# Altium footprint library VolcDB_B.PcbLib: 25 footprints (part 1 of 2)
Each footprint in its own frame and in the unit in brackets; x right, y up, seen from the top. Pads: shape width x height; smd on the part's side, far side on the other; paste and mask are expansions set on the pad; w line width, h text height; cw(c..) or ccw(c..) is an arc to the next point about the centre after c.
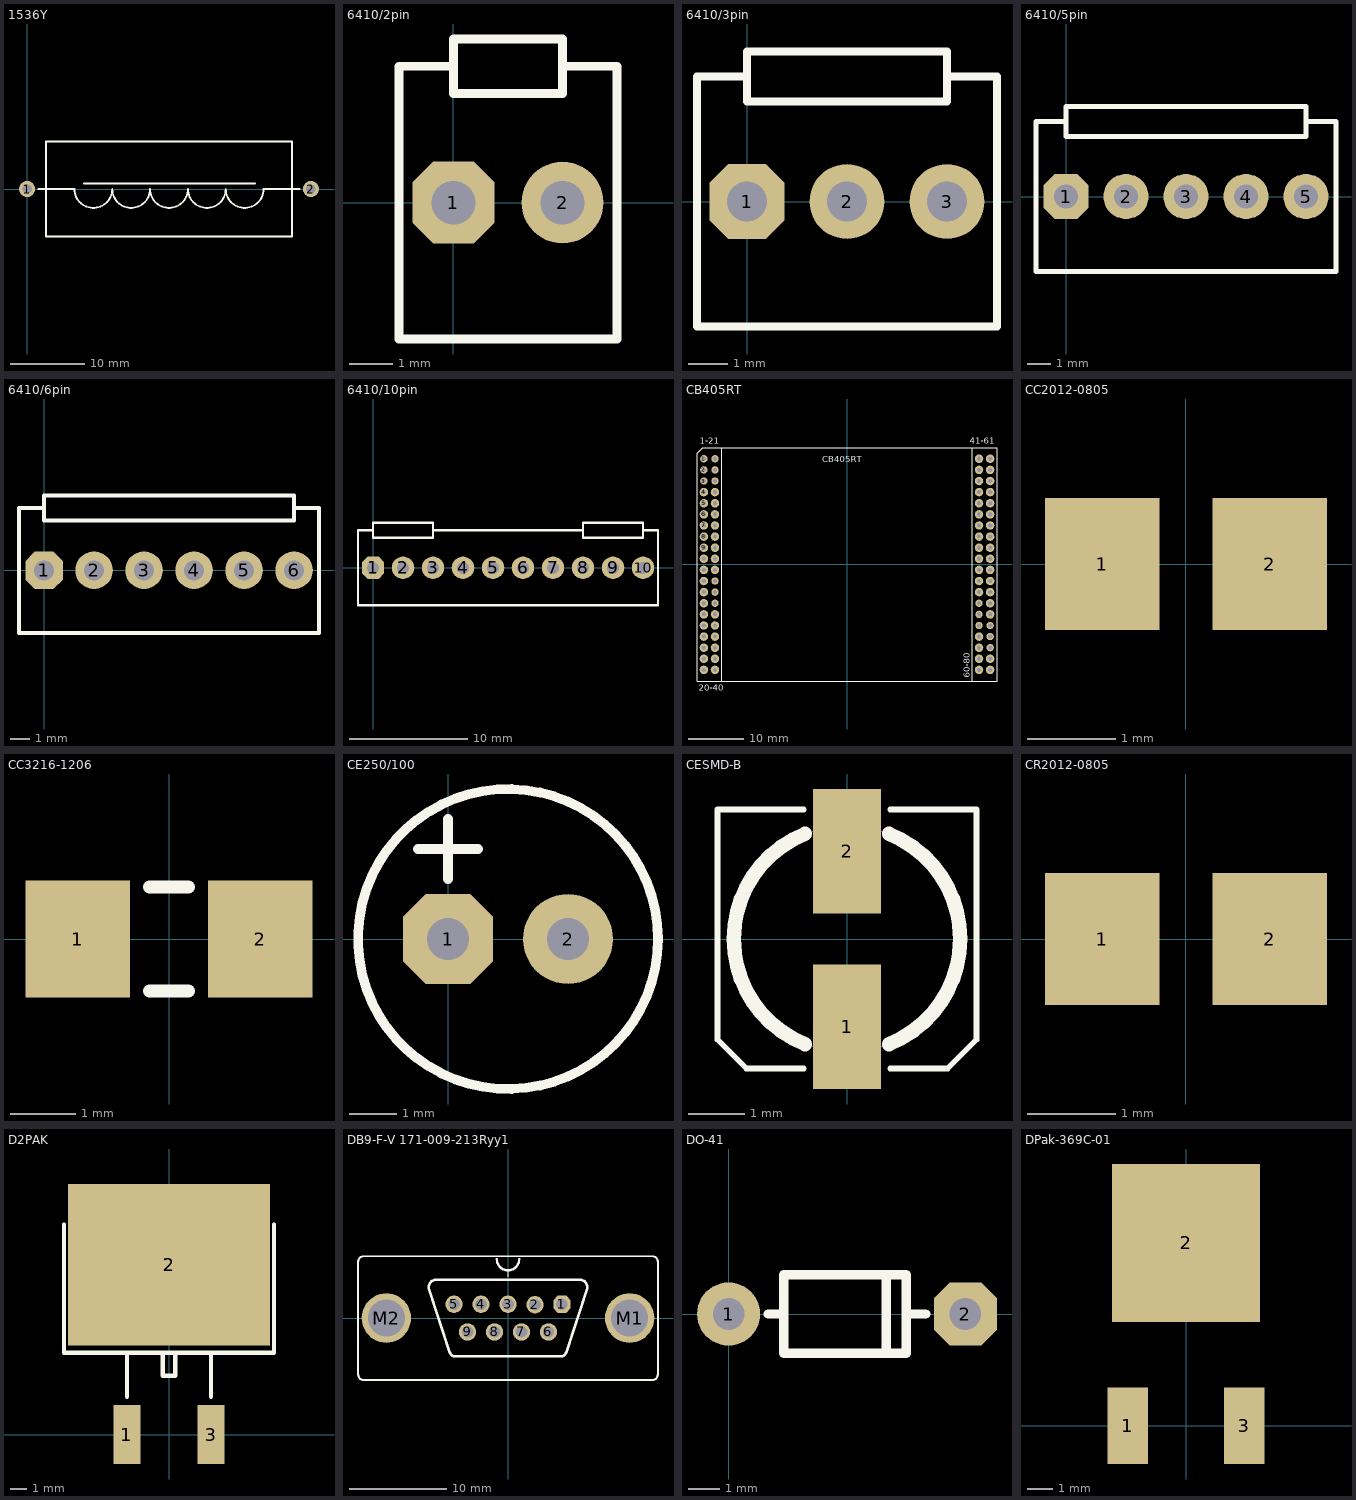
[diagram p0: the footprints below, top view; thin cyan lines are the x and y axes]

## 1536Y [mil] "Inductor 500uH"
height 500
pads (2):
  round 85 hole 50: 1(0,0) 2(1500,0)
Top Overlay:
  lines w10: 60,0 250,0 ccw(c350,0) 450,0 ccw(c550,0) 650,0 ccw(c750,0) 850,0 ccw(c950,0) 1050,0 ccw(c1150,0) 1250,0 1440,0 ; 300,30 1205,30 ; 100,-250 100,250 1400,250 1400,-250 100,-250

## 6410/2pin [mil]
pads (2):
  oct 75x75 hole 40: 1(0,0)
  round 75 hole 40: 2(100,0)
Top Overlay:
  lines w8: 0,125 0,100 100,100 100,125 ; 0,125 0,150 100,150 100,125 ; 0,125 -50,125 -50,-125 150,-125 150,125 100,125
3D body "022272021.STEP": height 461.23, standoff -139.56, extent -50,-114.17 150,114.17

## 6410/3pin [mil] "3-pin Power Connector"
pads (3):
  oct 75x75 hole 40: 1(0,0)
  round 75 hole 40: 2(100,0) 3(200,0)
Top Overlay:
  lines w8: 0,125 -50,125 -50,-125 250,-125 250,125 200,125 ; 0,125 0,150 200,150 200,125 ; 0,125 0,100 200,100 200,125
3D body "022272031.STEP": height 461.23, standoff -139.56, extent -50,-114.17 250,114.17

## 6410/5pin [mil]
pads (5):
  oct 75x75 hole 40: 1(0,0)
  round 75 hole 40: 2(100,0) 3(200,0) 4(300,0) 5(400,0)
Top Overlay:
  lines w8: 0,125 -50,125 -50,-125 450,-125 450,125 400,125 ; 0,125 0,150 400,150 400,125 ; 0,125 0,100 400,100 400,125
3D body "022272051.STEP": height 461.23, standoff -139.56, extent -50,-114.17 450,114.17

## 6410/6pin [mil]
pads (6):
  oct 75x75 hole 40: 1(0,0)
  round 75 hole 40: 2(100,0) 3(200,0) 4(300,0) 5(400,0) 6(500,0)
Top Overlay:
  lines w8: 0,125 -50,125 -50,-125 550,-125 550,125 500,125 ; 0,125 0,150 500,150 500,125 ; 0,125 0,100 500,100 500,125
3D body "022272061.STEP": height 461.23, standoff -139.56, extent -49.99,-114.95 550.01,113.39

## 6410/10pin [mil] "10-pin J4 Analog Input Connector"
pads (10):
  oct 75x75 hole 40: 1(0,0)
  round 75 hole 40: 2(100,0) 3(200,0) 4(300,0) 5(400,0) 6(500,0) 7(600,0) 8(700,0) 9(800,0) 10(900,0)
Top Overlay:
  lines w8: 200,125 700,125 ; 0,125 0,100 200,100 200,150 0,150 0,125 ; 0,125 -50,125 -50,-125 950,-125 950,125 900,125 ; 900,125 900,100 700,100 700,150 900,150 900,125
3D body "022272101.STEP": height 461.23, standoff -139.56, extent -50,-114.17 950,114.17

## CB405RT [mil] "Cubloc"
height 472.44
pads (80):
  round 52 hole 30: 1(-1014.37,748.03) 2(-1014.37,669.29) 3(-1014.37,590.55) 21(-935.63,748.03) 22(-935.63,669.29) 23(-935.63,590.55) 32(-935.63,-118.11) 33(-935.63,-196.85) 34(-935.63,-275.59) 54(935.63,-275.59) 55(935.63,-354.33) 56(935.63,-433.07) 76(1014.37,-433.07) 77(1014.37,-511.81) 78(1014.37,-590.55)
  round 60 hole 30: 4(-1014.37,511.81) 5(-1014.37,433.07) 6(-1014.37,354.33) 7(-1014.37,275.59) 8(-1014.37,196.85) 9(-1014.37,118.11) 10(-1014.37,39.37) 11(-1014.37,-39.37) 12(-1014.37,-118.11) 13(-1014.37,-196.85) 14(-1014.37,-275.59) 15(-1014.37,-354.33) 16(-1014.37,-433.07) 17(-1014.37,-511.81) 18(-1014.37,-590.55) 19(-1014.37,-669.29) 20(-1014.37,-748.03) 24(-935.63,511.81) 25(-935.63,433.07) 26(-935.63,354.33) 27(-935.63,275.59) 28(-935.63,196.85) 29(-935.63,118.11) 30(-935.63,39.37) 31(-935.63,-39.37) 35(-935.63,-354.33) 36(-935.63,-433.07) 37(-935.63,-511.81) 38(-935.63,-590.55) 39(-935.63,-669.29) 40(-935.63,-748.03) 41(935.63,748.03) 42(935.63,669.29) 43(935.63,590.55) 44(935.63,511.81) 45(935.63,433.07) 46(935.63,354.33) 47(935.63,275.59) 48(935.63,196.85) 49(935.63,118.11) 50(935.63,39.37) 51(935.63,-39.37) 52(935.63,-118.11) 53(935.63,-196.85) 57(935.63,-511.81) 58(935.63,-590.55) 59(935.63,-669.29) 60(935.63,-748.03) 61(1014.37,748.03) 62(1014.37,669.29) 63(1014.37,590.55) 64(1014.37,511.81) 65(1014.37,433.07) 66(1014.37,354.33) 67(1014.37,275.59) 68(1014.37,196.85) 69(1014.37,118.11) 70(1014.37,39.37) 71(1014.37,-39.37) 72(1014.37,-118.11) 73(1014.37,-196.85) 74(1014.37,-275.59) 75(1014.37,-354.33) 79(1014.37,-669.29) 80(1014.37,-748.03)
Top Overlay:
  lines w7.87: -885.83,-826.77 -885.83,826.77 ; 885.83,-826.77 885.83,826.77 ; -1062.99,-826.77 -1062.99,787.4 -1023.62,826.77 1062.99,826.77 1062.99,-826.77 -1062.99,-826.77 ; -1062.99,767.72 -1062.99,767.72 ; -1003.94,826.77 -1003.94,826.77
  text "CB405RT" at -175,725 h45
  text "1-21" at -1045,855 h45
  text "20-40" at -1050,-895 h45
  text "41-61" at 870,855 h45
  text "60-80" at 870,-805 h45
3D body: height 177.17, standoff 3.94, extent -1043.31,-780 -905.51,780
3D body: height 177.17, standoff 3.94, extent 906.1,-780 1043.9,780
3D body: height 472.44, standoff 177.17, extent -1062.99,-826.77 1062.99,826.77

## CC2012-0805 [mm] "Chip Capacitor Body 2 x 1.3 mm (LxW typ)"
height 0.65
pads (2):
  rect 1.3x1.5 smd: 1(-0.95,0) 2(0.95,0)
3D body "CC2012m_0805i.STEP": height 1.32, standoff 0, extent -1,-0.65 1,0.6

## CC3216-1206 [mm] "Chip Capacitor Body 3.2 x 1.6 mm (LxW typ)"
height 0.71
pads (2):
  rect 1.6x1.8 smd: 1(-1.4,0) 2(1.4,0)
Top Overlay:
  lines w0.2: -0.3,-0.8 0.3,-0.8 ; -0.3,0.8 0.3,0.8
3D body "CC3216m_1206i.STEP": height 1.25, standoff 0, extent -1.6,-0.8 1.6,0.8

## CE250/100 [mil]
pads (2):
  oct 75x75 hole 35: 1(0,0)
  round 75 hole 35: 2(100,0)
Top Overlay:
  circle w8: c50,0 r125
  lines w8: -25,75 25,75 ; 0,50 0,100

## CESMD-B [mm]
height 5.8
pads (2):
  rect 1.2x2.2 smd: 1(0,-1.55) 2(0,1.55)
Top Overlay:
  lines w0.102: -0.762,-2.286 -1.778,-2.286 -2.286,-1.778 -2.286,2.286 -0.762,2.286 ; 0.762,-2.286 1.778,-2.286 2.286,-1.778 2.286,2.286 0.762,2.286
  lines w0.254: -0.743,-1.857 cw(c0,0) -0.743,1.857 ; 0.743,-1.857 ccw(c0,0) 0.743,1.857
Mechanical 15:
  circle w0.025: c0,0 r2
3D body: height 0.2, standoff 0, extent -0.4,0.5 0.4,2.5
3D body: height 0.2, standoff 0, extent -0.4,-2.5 0.4,-0.5
3D body: height 5.8, standoff 0.3, extent -1.999,-1.999 1.999,1.999
3D body: height 0.3, standoff 0, extent -2.15,-2.15 2.15,2.15

## CR2012-0805 [mm] "Chip Resistor; Body 2 x 1.3 mm (LxW typ)"
height 0.65
pads (2):
  rect 1.3x1.5 smd: 1(-0.95,0) 2(0.95,0)
3D body "CR2012m_0805i.STEP": height 0.58, standoff 0, extent -1,-0.625 1,0.625

## D2PAK [mil] "D-Pak"
height 180
pads (3):
  rect 65x140 smd: 1(-100,0) 3(100,0)
  rect 480x384 smd: 2(0,404)
Top Overlay:
  lines w10: -250,500 -250,195 250,195 250,500 ; -100,90 -100,195 ; -15,195 -15,140 15,140 15,195 ; 100,90 100,195
3D body: height 130, standoff 110, extent -15,140 15,195
3D body: height 20, standoff 0, extent 85,-50 115,50
3D body: height 130, standoff 0, extent 75,50 125,70
3D body: height 130, standoff 110, extent 75,70 125,200
3D body: height 130, standoff 110, extent -125,70 -75,200
3D body: height 130, standoff 0, extent -125,50 -75,70
3D body: height 20, standoff 0, extent -115,-50 -85,50
3D body: height 50, standoff 0, extent -200,190 200,590
3D body: height 175, standoff 50, extent -200,190 200,555

## DB9-F-V 171-009-213Ryy1 [mil] "DB9  Female Vertical"
height 400
pads (11):
  oct 70x70 hole 47: 1(218,56)
  round 70 hole 47: 2(109,54) 3(0,56) 4(-109,56) 5(-218,56) 6(163.5,-56) 7(54.5,-56) 8(-54.5,-56) 9(-163.5,-56)
  round 200 hole 150: M1(492,0) M2(-492,0)
Top Overlay:
  lines w5: 0,168 0,193
  lines w8: -606.5,-230 -606.5,230 ; -605,-230 ccw(c-585,-230) -585,-250 585,-250 ccw(c585,-230) 605,-230 ; -605,230 cw(c-585,230) -585,250 585,250 cw(c585,230) 605,230 ; 606.5,-230 606.5,230
  lines w10: -290.41,154.93 ccw(c-290.41,124.93) -320,120 -235,-140 ; -290,155 290,155 ; -234.4,-139.85 ccw(c-215,-135) -215,-155 ; -216,-155 214,-155 ; -45,238 ccw(c0,238) 45,238 ; 215,-155 ccw(c215,-135) 234.4,-139.85 ; 235,-140 320,120 ccw(c290.41,124.93) 290.41,154.93
3D body "171-009-213.STEP": height 533, standoff -146, extent -604.99,-247.99 608.01,248.01

## DO-41 [mil]
pads (2):
  round 80 hole 40: 1(0,0)
  oct 80x80 hole 40: 2(300,0)
Top Overlay:
  lines w12: 50,0 70,0 ; 200,-50 200,50 ; 225,0 250,0 ; 70,-50 225,-50 225,50 70,50 70,-50

## DPak-369C-01 [mm] "Plastic package DPak"
height 2.2
pads (3):
  rect 1.6x3 smd: 1(-2.29,0) 3(2.29,0)
  rect 5.8x6.2 smd: 2(0,7.18)
3D body: height 2.2, standoff 0, extent -3.25,2 3.25,8
3D body: height 0.5, standoff 0, extent -2.5,8 2.5,8.5
3D body: height 0.5, standoff 0, extent -2.75,-0.5 -1.75,0.5
3D body: height 1, standoff 0, extent -2.75,0.5 -1.75,1
3D body: height 1.5, standoff 1, extent -2.75,0.5 -1.75,2
3D body: height 1.5, standoff 1, extent 1.75,0.5 2.75,2
3D body: height 1, standoff 0, extent 1.75,0.5 2.75,1
3D body: height 0.5, standoff 0, extent 1.75,-0.5 2.75,0.5
3D body: height 1.5, standoff 1, extent -0.5,1 0.5,2